# Altium integrated library BLM15PG100SN1D.IntLib: 1 symbol
Pins are listed as number, name and electrical type; pins without a type are passive.

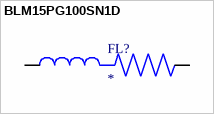
[diagram p0: symbol BLM15PG100SN1D]

## BLM15PG100SN1D
designator FL?
FERRITE, BEAD, 0402, 0.025OHM, 1A; MP: BLM15PG100SN1D; Package: None; Price: None; Value: *; Availability: Unavailable
footprint BEADC1005X55N
pins: 1, 2